# Altium footprint library PcbLib1.PcbLib: 15 footprints
Each footprint in its own frame and in the unit in brackets; x right, y up, seen from the top. Pads: shape width x height; smd on the part's side, far side on the other; paste and mask are expansions set on the pad; w line width, h text height; cw(c..) or ccw(c..) is an arc to the next point about the centre after c.
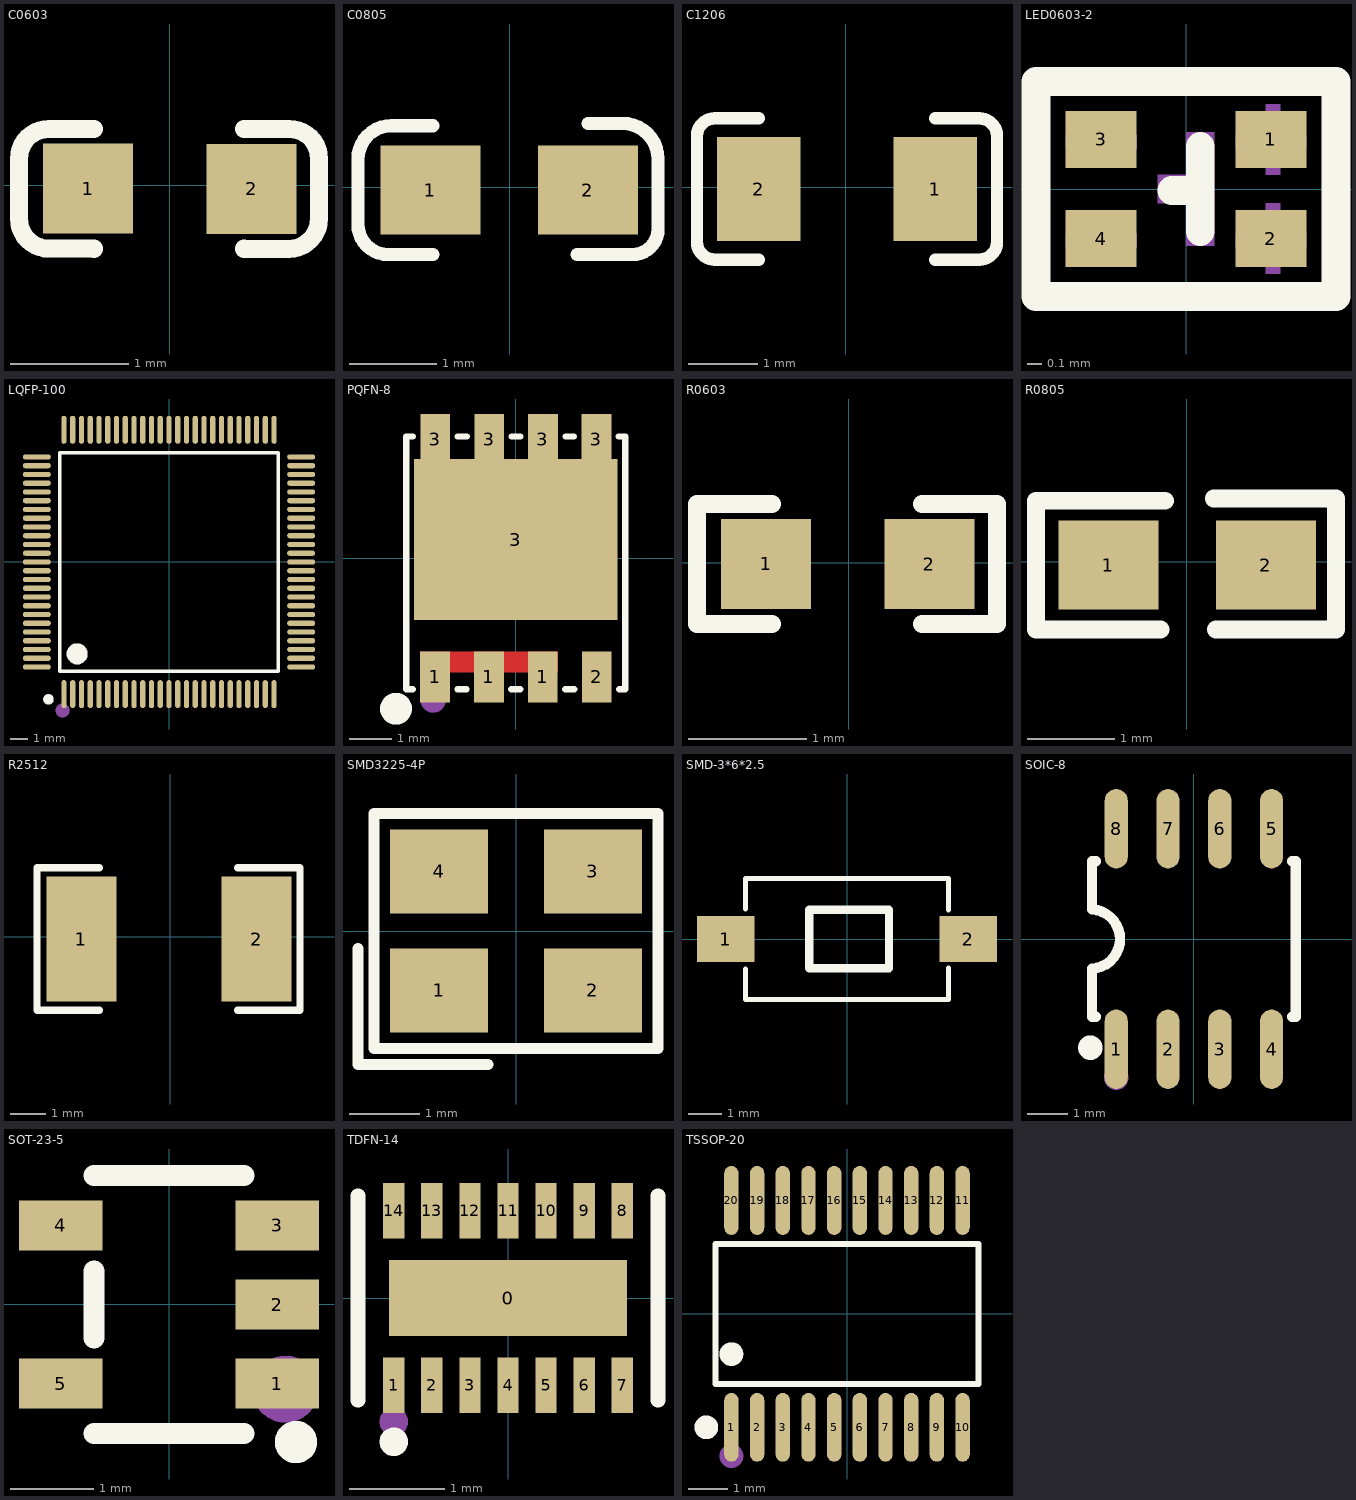
[diagram p0: the footprints below, top view; thin cyan lines are the x and y axes]

## C0603 [mil]
pads (2):
  rect 30x30 smd: 1(-27.2,-1.24) 2(27.3,-1.3)
Top Overlay:
  lines w6: -25.2,-21.3 ccw(c-25.26,-21.3) -25.26,-21.24 -40.2,-21.24 cw(c-40.2,-11.24) -50.2,-11.24 -50.2,8.76 cw(c-40.26,8.76) -40.26,18.7 -25.2,18.7 ; 24.8,-21.24 ccw(c24.86,-21.24) 24.86,-21.3 39.74,-21.3 ccw(c39.74,-11.24) 49.8,-11.24 49.8,8.76 ccw(c39.86,8.76) 39.86,18.7 24.8,18.7
3D body "C 0603.STEP": height 31.89, standoff -0.39, extent -30.69,-17.74 32.3,14.54

## C0805 [mil]
pads (2):
  rect 45x40 smd: 1(-35.65,-1.29) 2(35.22,-1.29)
Top Overlay:
  lines w6: -34.65,-30.29 -54.65,-30.29 cw(c-54.65,-16.73) -68.21,-16.73 -68.21,12.71 cw(c-53.21,12.71) -53.21,27.71 -34.65,27.71 ; 30.35,-30.29 55.35,-30.29 ccw(c55.35,-18.86) 66.79,-18.86 66.79,12.71 ccw(c50.79,12.71) 50.79,28.71 35.35,28.71
3D body "C 0805.STEP": height 20.08, standoff -0.39, extent -39.47,-25.21 39.27,22.82

## C1206 [mm]
pads (2):
  rect 1.2x1.5 smd: 1(1.288,-0.023) 2(-1.252,-0.023)
Top Overlay:
  lines w0.178: -1.252,-1.039 -1.887,-1.039 cw(c-1.887,-0.785) -2.141,-0.785 -2.141,0.739 cw(c-1.887,0.739) -1.887,0.993 -1.252,0.993 ; 1.288,-1.039 1.923,-1.039 ccw(c1.923,-0.785) 2.177,-0.785 2.177,0.739 ccw(c1.923,0.739) 1.923,0.993 1.288,0.993
3D body "C 1206.STEP": height 1.21, standoff -0.01, extent -1.6,-0.835 1.6,0.785

## LED0603-2 [mm]
pads (4):
  rect 0.5x0.4 smd: 1(0.6,0.35) 2(0.6,-0.35) 3(-0.6,0.35) 4(-0.6,-0.35)
Top Overlay:
  lines w0.203: -0.1,-0.011 0.1,-0.011 ; 0.1,-0.3 0.1,0.3 ; -1.06,-0.76 -1.06,0.76 1.06,0.76 1.06,0.15 1.06,-0.76 -1.06,-0.76
Mechanical 15:
  region: 0.351,0.285 0.351,0.385 0.851,0.385 0.851,0.285
  region: 0.665,0.101 0.565,0.101 0.565,0.601 0.665,0.601
  region: 0.351,-0.415 0.351,-0.315 0.851,-0.315 0.851,-0.415
  region: 0.665,-0.599 0.565,-0.599 0.565,-0.099 0.665,-0.099
  region: -0.849,0.285 -0.849,0.385 -0.349,0.385 -0.349,0.285
  region: -0.849,-0.415 -0.849,-0.315 -0.349,-0.315 -0.349,-0.415
  region: 0,0.1 0,0.4 0.2,0.4 0.2,-0.4 0,-0.4 0,-0.1 -0.2,-0.1 -0.2,0.1
3D body "LED 0603玻璃罩.STEP": height 0.61, standoff 0.21, extent -0.599,0 0.599,0.802
3D body "LED 0603-B.STEP": height 0.47, standoff 0, extent -0.8,-0.802 0.8,0
3D body "LED 0603玻璃罩.STEP": height 0.61, standoff 0.21, extent -0.599,-0.802 0.599,0
3D body "LED 0603-R.STEP": height 0.47, standoff 0, extent -0.8,0 0.8,0.802

## LQFP-100 [mm]
pads (100):
  oval 0.3x1.6 smd: 1(-6,-7.55) 2(-5.5,-7.55) 3(-5,-7.55) 4(-4.5,-7.55) 5(-4,-7.55) 6(-3.5,-7.55) 7(-3,-7.55) 8(-2.5,-7.55) 9(-2,-7.55) 10(-1.5,-7.55) 11(-1,-7.55) 12(-0.5,-7.55) 13(0,-7.55) 14(0.5,-7.55) 15(1,-7.55) 16(1.5,-7.55) 17(2,-7.55) 18(2.5,-7.55) 19(3,-7.55) 20(3.5,-7.55) 21(4,-7.55) 22(4.5,-7.55) 23(5,-7.55) 24(5.5,-7.55) 25(6,-7.55) 51(6,7.55) 52(5.5,7.55) 53(5,7.55) 54(4.5,7.55) 55(4,7.55) 56(3.5,7.55) 57(3,7.55) 58(2.5,7.55) 59(2,7.55) 60(1.5,7.55) 61(1,7.55) 62(0.5,7.55) 63(0,7.55) 64(-0.5,7.55) 65(-1,7.55) 66(-1.5,7.55) 67(-2,7.55) 68(-2.5,7.55) 69(-3,7.55) 70(-3.5,7.55) 71(-4,7.55) 72(-4.5,7.55) 73(-5,7.55) 74(-5.5,7.55) 75(-6,7.55)
  oval 1.6x0.3 smd: 26(7.55,-6) 27(7.55,-5.5) 28(7.55,-5) 29(7.55,-4.5) 30(7.55,-4) 31(7.55,-3.5) 32(7.55,-3) 33(7.55,-2.5) 34(7.55,-2) 35(7.55,-1.5) 36(7.55,-1) 37(7.55,-0.5) 38(7.55,0) 39(7.55,0.5) 40(7.55,1) 41(7.55,1.5) 42(7.55,2) 43(7.55,2.5) 44(7.55,3) 45(7.55,3.5) 46(7.55,4) 47(7.55,4.5) 48(7.55,5) 49(7.55,5.5) 50(7.55,6) 76(-7.55,6) 77(-7.55,5.5) 78(-7.55,5) 79(-7.55,4.5) 80(-7.55,4) 81(-7.55,3.5) 82(-7.55,3) 83(-7.55,2.5) 84(-7.55,2) 85(-7.55,1.5) 86(-7.55,1) 87(-7.55,0.5) 88(-7.55,0) 89(-7.55,-0.5) 90(-7.55,-1) 91(-7.55,-1.5) 92(-7.55,-2) 93(-7.55,-2.5) 94(-7.55,-3) 95(-7.55,-3.5) 96(-7.55,-4) 97(-7.55,-4.5) 98(-7.55,-5) 99(-7.55,-5.5) 100(-7.55,-6)
Top Overlay:
  lines w0.2: -6.25,-6.25 6.25,-6.25 6.25,6.25 -6.25,6.25 -6.25,-6.25
  lines w0.3: -6.883,-7.696 ccw(c-6.882,-7.846) -6.881,-7.696
  lines w0.6: -5.25,-4.95 ccw(c-5.248,-5.25) -5.245,-4.95
Top Paste:
  drawing of 100 lines, arcs and shapes, not listed
Mechanical 15:
  circle w0.4: c-6.071,-8.484 r0.2
3D body "LQFP100-14x14.STEP": height 1.45, standoff -0.01, extent -8.005,-8.005 8.001,8.001

## PQFN-8 [mm]
pads (9):
  rect 0.7x1.2 smd: 1(-1.905,-2.8) 1(-0.635,-2.8) 1(0.635,-2.8) 2(1.905,-2.8) 3(-1.9,2.8) 3(-0.63,2.8) 3(0.64,2.8) 3(1.9,2.8)
  rect 4.8x3.8 smd: 3(0,0.44)
Top Layer:
  region: -2.256,-2.2 0.986,-2.2 0.986,-2.682 0.983,-2.685 -2.256,-2.685
  pour cut-out: -2.261,-3.404
Top Overlay:
  lines w0.15: -2.58,2.87 -2.58,-3.09 -2.434,-3.09 ; -2.57,2.87 -2.429,2.87 ; -1.376,-3.09 -1.164,-3.09 ; -1.371,2.87 -1.159,2.87 ; -0.106,-3.09 0.106,-3.09 ; -0.101,2.87 0.111,2.87 ; 1.164,-3.09 1.376,-3.09 ; 1.169,2.87 1.371,2.87 ; 2.429,2.87 2.58,2.87 2.58,2.84 2.58,-3.09 2.434,-3.09
  lines w0.5: -2.95,-3.55 ccw(c-2.826,-3.549) -2.95,-3.547
Top Paste:
  region: -2.4,2.44 2.4,2.44 2.4,-1.46 -2.4,-1.46
  region: 1.555,-2.2 2.255,-2.2 2.255,-3.4 1.555,-3.4
  region: 0.285,-2.2 0.985,-2.2 0.985,-3.4 0.285,-3.4
  region: -0.985,-2.2 -0.285,-2.2 -0.285,-3.4 -0.985,-3.4
  region: -2.255,-2.2 -1.555,-2.2 -1.555,-3.4 -2.255,-3.4
  region: -2.25,3.4 -1.55,3.4 -1.55,2.8 -2.25,2.8
  region: -0.98,3.4 -0.28,3.4 -0.28,2.8 -0.98,2.8
  region: 0.29,3.4 0.99,3.4 0.99,2.8 0.29,2.8
  region: 1.55,3.4 2.25,3.4 2.25,2.8 1.55,2.8
Mechanical 15:
  circle w0.3: c-1.948,-3.343 r0.15
Multi-Layer:
  pour cut-out: -2.261,-3.404
3D body "User Library-FDMS8018.STEP": height 1.1, standoff 0, extent -2.59,-3.238 2.61,3.011

## R0603 [mil]
pads (2):
  rect 30x30 smd: 1(-27.6,-0.44) 2(26.9,-0.5)
Top Overlay:
  lines w6: -25.6,-20.5 -50.6,-20.5 -50.6,19.5 -44.35,19.5 -31.85,19.5 -25.6,19.5 ; 24.4,-20.5 49.4,-20.5 49.4,19.5 24.4,19.5
3D body "R0603.STEP": height 17.72, standoff 0, extent -31.39,-16.14 31.61,15.35

## R0805 [mil]
pads (2):
  rect 45x40 smd: 1(-35.37,-1.6) 2(35.5,-1.6)
Top Overlay:
  lines w8: -11.93,-30.6 -67.93,-30.6 -67.93,27.4 -9.93,27.4 ; 12.07,28.4 67.07,28.4 ; 13.07,-30.6 67.07,-30.6 67.07,27.4
3D body "R0805.STEP": height 21.65, standoff 0, extent -39.46,-26.4 39.28,23.21

## R2512 [mil]
pads (2):
  rect 78.74x140 smd: 1(-99.81,-2.5) 2(97.04,-2.5)
Top Overlay:
  lines w7.87: -79.5,-82.5 -149.81,-82.5 -149.81,77.5 -79.5,77.5 ; 75.5,-82.5 145.81,-82.5 145.81,77.5 75.5,77.5
3D body "R 2512.STEP": height 21.69, standoff -0.63, extent -126.18,-64.99 125.79,61

## SMD3225-4P [mm]
pads (4):
  rect 1.4x1.2 smd: 1(-1.1,-0.85) 2(1.1,-0.85) 3(1.1,0.85) 4(-1.1,0.85)
Top Overlay:
  lines w0.152: -2.257,-0.25 -2.257,-1.907 -0.4,-1.907 ; -2.029,-1.678 2.029,-1.678 2.029,1.679 -2.029,1.679 -2.029,-1.678
Mechanical 15:
  circle w0.36: c-1.143,-0.889 r0.18
3D body "User Library-SMD-3225_4P.STEP": height 1.05, standoff 0, extent -1.602,-1.255 1.598,1.245

## SMD-3*6*2.5 [mm]
pads (2):
  rect 1.74x1.4 smd: 1(-3.67,0) 2(3.67,0)
Top Overlay:
  lines w0.152: -3.076,-0.903 -3.076,-1.826 3.076,-1.826 3.076,-0.88 ; -3.076,0.903 -3.076,1.826 3.076,1.826 3.076,0.88
  lines w0.254: -1.143,-0.889 -1.143,0.889 1.27,0.889 1.27,-0.889 -1.143,-0.889
3D body "TSW SMD-3x6x2.5.STEP": height 2.59, standoff -0.03, extent -4.008,-1.76 3.992,1.74

## SOIC-8 [mil]
pads (8):
  oval 22.38x76.78 smd: 1(-75,-106.5) 2(-25,-106.5) 3(25,-106.5) 4(75,-106.5) 5(75,106.5) 6(25,106.5) 7(-25,106.5) 8(-75,106.5)
Top Overlay:
  circle w11.81: c-100,-105 r5.91
  lines w10: -98.43,-28.61 ccw(c-99.99,0) -98.23,28.59 ; -98.42,-28.61 -98.42,-59.05 -98.42,-75 -94.83,-75 ; -98.42,28.59 -98.42,59.05 -98.42,75 -94.83,75 ; 94.83,-75 98.42,-75 98.42,-59.05 98.42,59.05 98.42,75 94.83,75
Mechanical 15:
  circle w11.81: c-75,-133.86 r5.91
3D body "SOP8.STEP": height 74.8, standoff 0.03, extent -98.12,-118.92 98.73,117.52

## SOT-23-5 [mm]
pads (5):
  rect 1x0.6 smd: 1(1.3,-0.95) 2(1.3,0) 3(1.3,0.95) 4(-1.3,0.95) 5(-1.3,-0.95)
Top Overlay:
  circle w0.254: c1.524,-1.651 r0.127
  lines w0.254: -0.9,-1.55 0.9,-1.55 ; -0.9,-0.4 -0.9,0.4 ; -0.9,1.55 0.9,1.55
Mechanical 15:
  circle w0.4: c1.397,-1.016 r0.2
3D body "SOT23-5.STEP": height 1.15, standoff -0.03, extent -1.378,-1.5 1.429,1.5

## TDFN-14 [mm]
pads (15):
  rect 2.5x0.8 smd: 0(0,0)
  rect 0.224x0.585 smd: 1(-1.2,-0.917) 2(-0.8,-0.917) 3(-0.4,-0.917) 4(0,-0.917) 5(0.4,-0.917) 6(0.8,-0.917) 7(1.2,-0.917) 8(1.2,0.917) 9(0.8,0.917) 10(0.4,0.917) 11(0,0.917) 12(-0.4,0.917) 13(-0.8,0.917) 14(-1.2,0.917)
Top Overlay:
  circle w0.15: c-1.2,-1.51 r0.075
  lines w0.152: -1.576,-1.076 -1.576,1.076 ; 1.576,-1.076 1.576,1.076
Mechanical 15:
  circle w0.15: c-1.2,-1.3 r0.075
3D body "User Library-TDFN-EP-14.STEP": height 0.73, standoff -0.03, extent -1.5,-1.505 1.5,1.505

## TSSOP-20 [mm]
pads (20):
  oval 0.364x1.742 smd: 1(-2.925,-2.871) 2(-2.275,-2.871) 3(-1.625,-2.871) 4(-0.975,-2.871) 5(-0.325,-2.871) 6(0.325,-2.871) 7(0.975,-2.871) 8(1.625,-2.871) 9(2.275,-2.871) 10(2.925,-2.871) 11(2.925,2.871) 12(2.275,2.871) 13(1.625,2.871) 14(0.975,2.871) 15(0.325,2.871) 16(-0.325,2.871) 17(-0.975,2.871) 18(-1.625,2.871) 19(-2.275,2.871) 20(-2.925,2.871)
Top Overlay:
  circle w0.3: c-3.559,-2.871 r0.15
  circle w0.3: c-2.925,-1.019 r0.15
  lines w0.152: -3.326,-1.771 3.326,-1.771 3.326,1.771 -3.326,1.771 -3.326,-1.771
Mechanical 15:
  circle w0.3: c-2.925,-3.6 r0.15
3D body "TSSOP20.STEP": height 1.03, standoff -0.02, extent -3.25,-3.202 3.25,3.202